# Altium schematic symbol library TDA8932BT.SchLib: 1 symbol
Pins are listed as number, name and electrical type; pins without a type are passive.

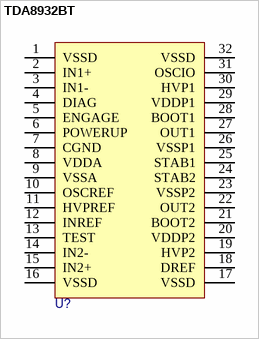
[diagram p0: symbol TDA8932BT]

## TDA8932BT
designator U?
pins: 1 VSSD, 2 IN1+, 3 IN1-, 4 DIAG, 5 ENGAGE, 6 POWERUP, 7 CGND, 8 VDDA, 9 VSSA, 10 OSCREF, 11 HVPREF, 12 INREF, 13 TEST, 14 IN2-, 15 IN2+, 16 VSSD, 17 VSSD, 18 DREF, 19 HVP2, 20 VDDP2, 21 BOOT2, 22 OUT2, 23 VSSP2, 24 STAB2, 25 STAB1, 26 VSSP1, 27 OUT1, 28 BOOT1, 29 VDDP1, 30 HVP1, 31 OSCIO, 32 VSSD